# Altium footprint library leonLib.PcbLib: 249 footprints (part 13 of 16)
Each footprint in its own frame and in the unit in brackets; x right, y up, seen from the top. Pads: shape width x height; smd on the part's side, far side on the other; paste and mask are expansions set on the pad; w line width, h text height; cw(c..) or ccw(c..) is an arc to the next point about the centre after c.
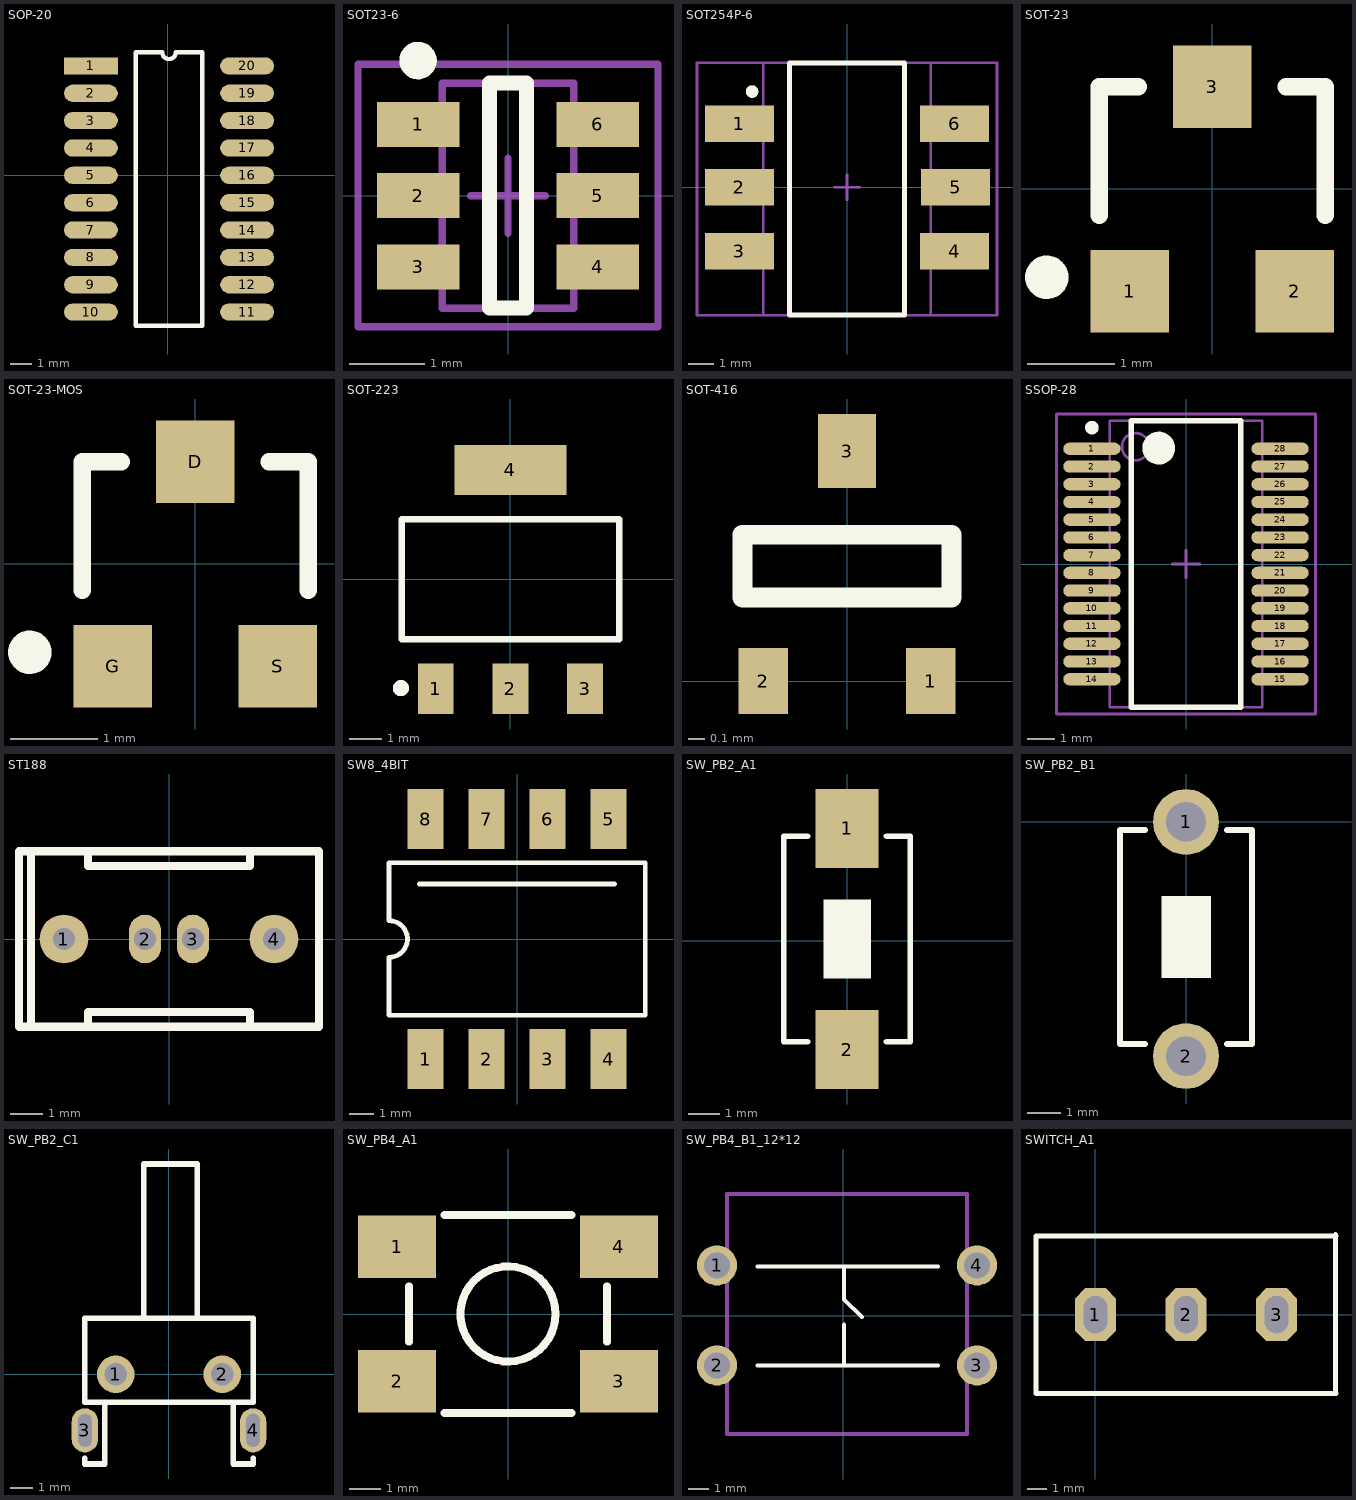
[diagram p12: the footprints below, top view; thin cyan lines are the x and y axes]

## SOP-20 [mm] "74ls244"
height 2.032
pads (20):
  rect 2.5x0.8 smd: 1(-3.556,5.08)
  oval 2.5x0.8 smd: 2(-3.556,3.81) 3(-3.556,2.54) 4(-3.556,1.27) 5(-3.556,0) 6(-3.556,-1.27) 7(-3.556,-2.54) 8(-3.556,-3.81) 9(-3.556,-5.08) 10(-3.556,-6.35) 11(3.694,-6.35) 12(3.694,-5.08) 13(3.694,-3.81) 14(3.694,-2.54) 15(3.694,-1.27) 16(3.694,0) 17(3.694,1.27) 18(3.694,2.54) 19(3.694,3.81) 20(3.694,5.08)
Top Overlay:
  lines w0.2: -1.471,-6.985 1.609,-6.985 1.609,5.715 0.386,5.715 cw(c0.069,5.715) -0.249,5.715 -1.471,5.715 -1.471,-6.985

## SOT23-6 [mm] "Max4173"
height 1.45
pads (6):
  rect 1.1x0.6 smd: 1(-1.2,0.95) 2(-1.2,0) 3(-1.2,-0.95) 4(1.2,-0.95) 5(1.2,0) 6(1.2,0.95)
Top Overlay:
  circle w0.25: c-1.2,1.8 r0.125
  lines w0.2: -0.25,-1.5 -0.25,1.5 0.25,1.5 0.25,-1.5 -0.25,-1.5
Mechanical 13:
  lines w0.1: -0.875,-1.5 0.875,-1.5 0.875,1.5 -0.875,1.5 -0.875,-1.5
Mechanical 15:
  lines w0.1: -0.5,0 0.5,0 ; 0,-0.5 0,0.5 ; -2,-1.75 2,-1.75 2,1.75 -2,1.75 -2,-1.75
3D body: height 1.45, standoff 0, extent -0.875,-1.5 0.875,1.5

## SOT254P-6 [mm] "继电器"
height 3.8
pads (6):
  rect 2.75x1.45 smd: 1(-4.283,2.54) 2(-4.283,0) 3(-4.283,-2.54) 4(4.283,-2.54) 5(4.318,0) 6(4.283,2.54)
Top Overlay:
  circle w0.25: c-3.775,3.815 r0.125
  lines w0.2: -2.286,-5.08 2.286,-5.08 2.286,4.953 -2.286,4.953 -2.286,-5.08
Mechanical 13:
  lines w0.1: -3.325,-5.08 -3.325,4.953 3.325,4.953 3.325,-5.08 -3.325,-5.08
Mechanical 15:
  lines w0.1: -0.5,0 0.5,0 ; 0,-0.5 0,0.5 ; -5.969,-5.08 -5.969,4.953 5.969,4.953 5.969,-5.08 -5.969,-5.08
3D body: height 3.8, standoff 0.05, extent -3.325,-5.08 3.325,4.953

## SOT-23 [mm]
height 1.1
pads (3):
  rect 0.9x0.95 smd: 1(-0.95,-1.175) 2(0.95,-1.175) 3(0,1.175)
Top Overlay:
  circle w0.25: c-1.903,-1.016 r0.125
  lines w0.2: -1.3,-0.3 -1.3,1.175 -0.85,1.175 ; 0.85,1.175 1.3,1.175 1.3,-0.3

## SOT-23-MOS [mm]
pads (3):
  rect 0.9x0.95 smd: D(0,1.175) G(-0.95,-1.175) S(0.95,-1.175)
Top Overlay:
  circle w0.25: c-1.903,-1.016 r0.125
  lines w0.2: -1.3,-0.3 -1.3,1.175 -0.85,1.175 ; 0.85,1.175 1.3,1.175 1.3,-0.3

## SOT-223 [mm]
height 1.8
pads (4):
  rect 1.1x1.55 smd: 1(-2.3,-3.375) 2(0,-3.375) 3(2.3,-3.375)
  rect 3.45x1.55 smd: 4(0,3.375)
Top Overlay:
  circle w0.25: c-3.376,-3.353 r0.125
  lines w0.2: -3.35,-1.85 -3.35,1.85 3.35,1.85 3.35,-1.85 -3.35,-1.85
3D body: height 0.8, standoff 0, extent -3.302,-2.032 3.302,2.159
3D body: height 0.3, standoff 0, extent -1.651,2.159 1.651,3.429
3D body: height 0.3, standoff 0, extent -2.794,-3.937 -1.905,-2.032
3D body: height 0.3, standoff 0, extent -0.508,-3.937 0.381,-2.032
3D body: height 0.3, standoff 0, extent 1.905,-3.937 2.794,-2.032

## SOT-416 [mm]
height 0.7
pads (3):
  rect 0.3x0.4 smd: 1(0.508,0) 2(-0.508,0)
  rect 0.35x0.45 smd: 3(0,1.397)
Top Overlay:
  lines w0.12: -0.635,0.508 0.635,0.508 0.635,0.889 -0.635,0.889 -0.635,0.508

## SSOP-28 [mm] "FT232"
height 2
pads (28):
  oval 2.1x0.45 smd: 1(-3.45,4.225) 2(-3.45,3.575) 3(-3.45,2.925) 4(-3.45,2.275) 5(-3.45,1.625) 6(-3.45,0.975) 7(-3.45,0.325) 8(-3.45,-0.325) 9(-3.45,-0.975) 10(-3.45,-1.625) 11(-3.45,-2.275) 12(-3.45,-2.925) 13(-3.45,-3.575) 14(-3.45,-4.225) 15(3.45,-4.225) 16(3.45,-3.575) 17(3.45,-2.925) 18(3.45,-2.275) 19(3.45,-1.625) 20(3.45,-0.975) 21(3.45,-0.325) 22(3.45,0.325) 23(3.45,0.975) 24(3.45,1.625) 25(3.45,2.275) 26(3.45,2.925) 27(3.45,3.575) 28(3.45,4.225)
Top Overlay:
  circle w0.25: c-3.45,5 r0.125
  circle w0.6: c-1,4.25 r0.3
  lines w0.2: -2,-5.25 -2,5.25 2,5.25 2,-5.25 -2,-5.25
Mechanical 13:
  circle w0.1: c-1.85,4.3 r0.5
  lines w0.1: -2.8,-5.25 -2.8,5.25 2.8,5.25 2.8,-5.25 -2.8,-5.25
Mechanical 15:
  lines w0.1: -0.5,0 0.5,0 ; 0,-0.5 0,0.5 ; -4.75,-5.5 -4.75,5.5 4.75,5.5 4.75,-5.5 -4.75,-5.5
3D body: height 2, standoff 0.09, extent -2.8,-5.25 2.8,5.25

## ST188 [mm] "反射式光电传感器"
height 8.2
pads (4):
  round 1.524 hole 0.7: 1(-3.29,0) 4(3.29,0)
  oval 1x1.524 hole 0.7: 2(-0.75,0) 3(0.75,0)
Top Overlay:
  lines w0.254: -4.318,-2.75 -4.318,2.75 ; -2.54,-2.75 -2.54,-2.286 2.54,-2.286 2.54,-2.75 ; -2.54,2.75 -2.54,2.286 2.54,2.286 2.54,2.75 ; -4.7,-2.75 4.7,-2.75 4.7,2.75 -4.7,2.75 -4.7,-2.75

## SW8_4BIT [mm] "贴片拨码开关"
height 1.75
pads (8):
  rect 1.5x2.5 smd: 1(-3.81,-5) 2(-1.27,-5) 3(1.27,-5) 4(3.81,-5) 5(3.81,5) 6(1.27,5) 7(-1.27,5) 8(-3.81,5)
Top Overlay:
  lines w0.2: -4.064,2.286 4.064,2.286 ; -5.334,-3.175 -5.334,-0.762 ccw(c-5.334,0) -5.334,0.762 -5.334,3.175 5.334,3.175 5.334,-3.175 -5.334,-3.175
3D body: height 2, standoff 0, extent -5.207,-3.429 5.08,3.429
3D body: height 2.05, standoff 2, extent -4.572,-2.032 -3.048,2.413
3D body: height 2.05, standoff 2, extent -2.032,-2.032 -0.508,2.413
3D body: height 2.05, standoff 2, extent 0.508,-2.032 2.032,2.413
3D body: height 2.05, standoff 2, extent 3.048,-2.032 4.572,2.413
3D body: height 2.15, standoff 2.05, extent -4.572,0.889 -3.048,2.413
3D body: height 2.15, standoff 2.05, extent -2.032,-2.032 -0.508,-0.508
3D body: height 2.15, standoff 2.05, extent 0.508,0.889 2.032,2.413
3D body: height 2.15, standoff 2.05, extent 3.048,0.889 4.572,2.413

## SW_PB2_A1 [mm]
pads (2):
  rect 2x2.5 smd: 1(0,3.556) 2(0,-3.444)
Top Overlay:
  region: -0.747,1.309 -0.747,-1.191 0.753,-1.191 0.753,1.309
  lines w0.178: -1.25,-3.194 -2,-3.19 -2,3.306 -1.25,3.306 ; 1.25,-3.194 2,-3.194 2,3.306 1.25,3.306
3D body: height 0.8, standoff 0, extent -2.032,-3.175 2.032,3.302
3D body: height 1.2, standoff 0.8, extent -0.762,-1.143 0.762,1.27

## SW_PB2_B1 [mm]
pads (2):
  round 2 hole 1.2: 1(0,0) 2(0,-7.112)
Top Overlay:
  region: -0.747,-2.247 -0.747,-4.747 0.753,-4.747 0.753,-2.247
  lines w0.178: -1.25,-6.75 -2,-6.746 -2,-0.25 -1.25,-0.25 ; 1.25,-6.75 2,-6.75 2,-0.25 1.25,-0.25

## SW_PB2_C1 [mm] "侧卧微动开关"
height 8
pads (4):
  round 1.7 hole 1: 1(-2.413,0) 2(2.413,0)
  oval 1.2x2 hole 0.6 slot 1.5 at 90 deg: 3(-3.81,-2.54) 4(3.81,-2.54)
Top Overlay:
  lines w0.25: -3.81,-3.81 -3.81,-4.064 -2.921,-4.064 -2.921,-1.27 ; -1.143,2.54 -1.143,9.525 1.27,9.525 1.27,2.54 ; 2.921,-1.27 2.921,-4.064 3.81,-4.064 3.81,-3.81 ; -3.81,-1.27 3.81,-1.27 3.81,2.54 -3.81,2.54 -3.81,-1.27

## SW_PB4_A1 [mm]
pads (4):
  rect 2.5x2 smd: 1(-3.556,2.159) 2(-3.556,-2.159) 3(3.556,-2.159) 4(3.556,2.159)
Top Overlay:
  circle w0.254: c0,0 r1.524
  lines w0.25: -3.175,-0.889 -3.175,0.889 ; -2.032,-3.175 2.032,-3.175 ; -2.032,3.175 2.032,3.175 ; 3.175,-0.889 3.175,0.889
3D body: height 1.5, standoff 0, extent -3.175,-3.175 3.175,3.175
3D body: height 6, standoff 0, extent -1.524,-1.524 1.524,1.524

## SW_PB4_B1_12*12 [mm]
pads (4):
  round 2 hole 1.3: 1(-6.316,2.509) 2(-6.316,-2.491) 3(6.684,-2.491) 4(6.684,2.509)
Top Overlay:
  lines w0.203: -4.284,-2.491 4.733,-2.491 ; -4.284,2.462 4.733,2.462 ; 0.034,-2.491 0.034,-0.459 ; 0.034,2.462 0.034,0.811 0.923,-0.078
Mechanical 15:
  lines w0.203: -5.808,-5.92 6.192,-5.92 6.192,6.08 -5.808,6.08 -5.808,-5.92
3D body: height 3.5, standoff 0, extent -5.808,-5.92 6.192,6.08
3D body: height 9, standoff 1, extent -3.395,-3.634 3.777,3.552
3D body: height 1, standoff 0, extent -6.57,1.827 -5.808,3.097
3D body: height 1, standoff 0, extent -6.57,-3.126 -5.808,-1.856
3D body: height 1, standoff 0, extent 6.192,-3.253 6.954,-1.983
3D body: height 1, standoff 0, extent 6.192,1.827 6.954,3.097

## SWITCH_A1 [mm] "扭子开关"
height 10
pads (3):
  oct 2.1x2.7 hole 1.2 slot 1.9 at 90 deg: 1(0,0) 2(4.6,0) 3(9.2,0)
Top Overlay:
  lines w0.254: 12.192,-3.972 12.192,4.064 ; 12.22,-4 -3.02,-4 -3.02,4 12.22,4